# Altium footprint library Package_DIP.PcbLib: 281 footprints (part 6 of 18)
Each footprint in its own frame and in the unit in brackets; x right, y up, seen from the top. Pads: shape width x height; smd on the part's side, far side on the other; paste and mask are expansions set on the pad; w line width, h text height; cw(c..) or ccw(c..) is an arc to the next point about the centre after c.
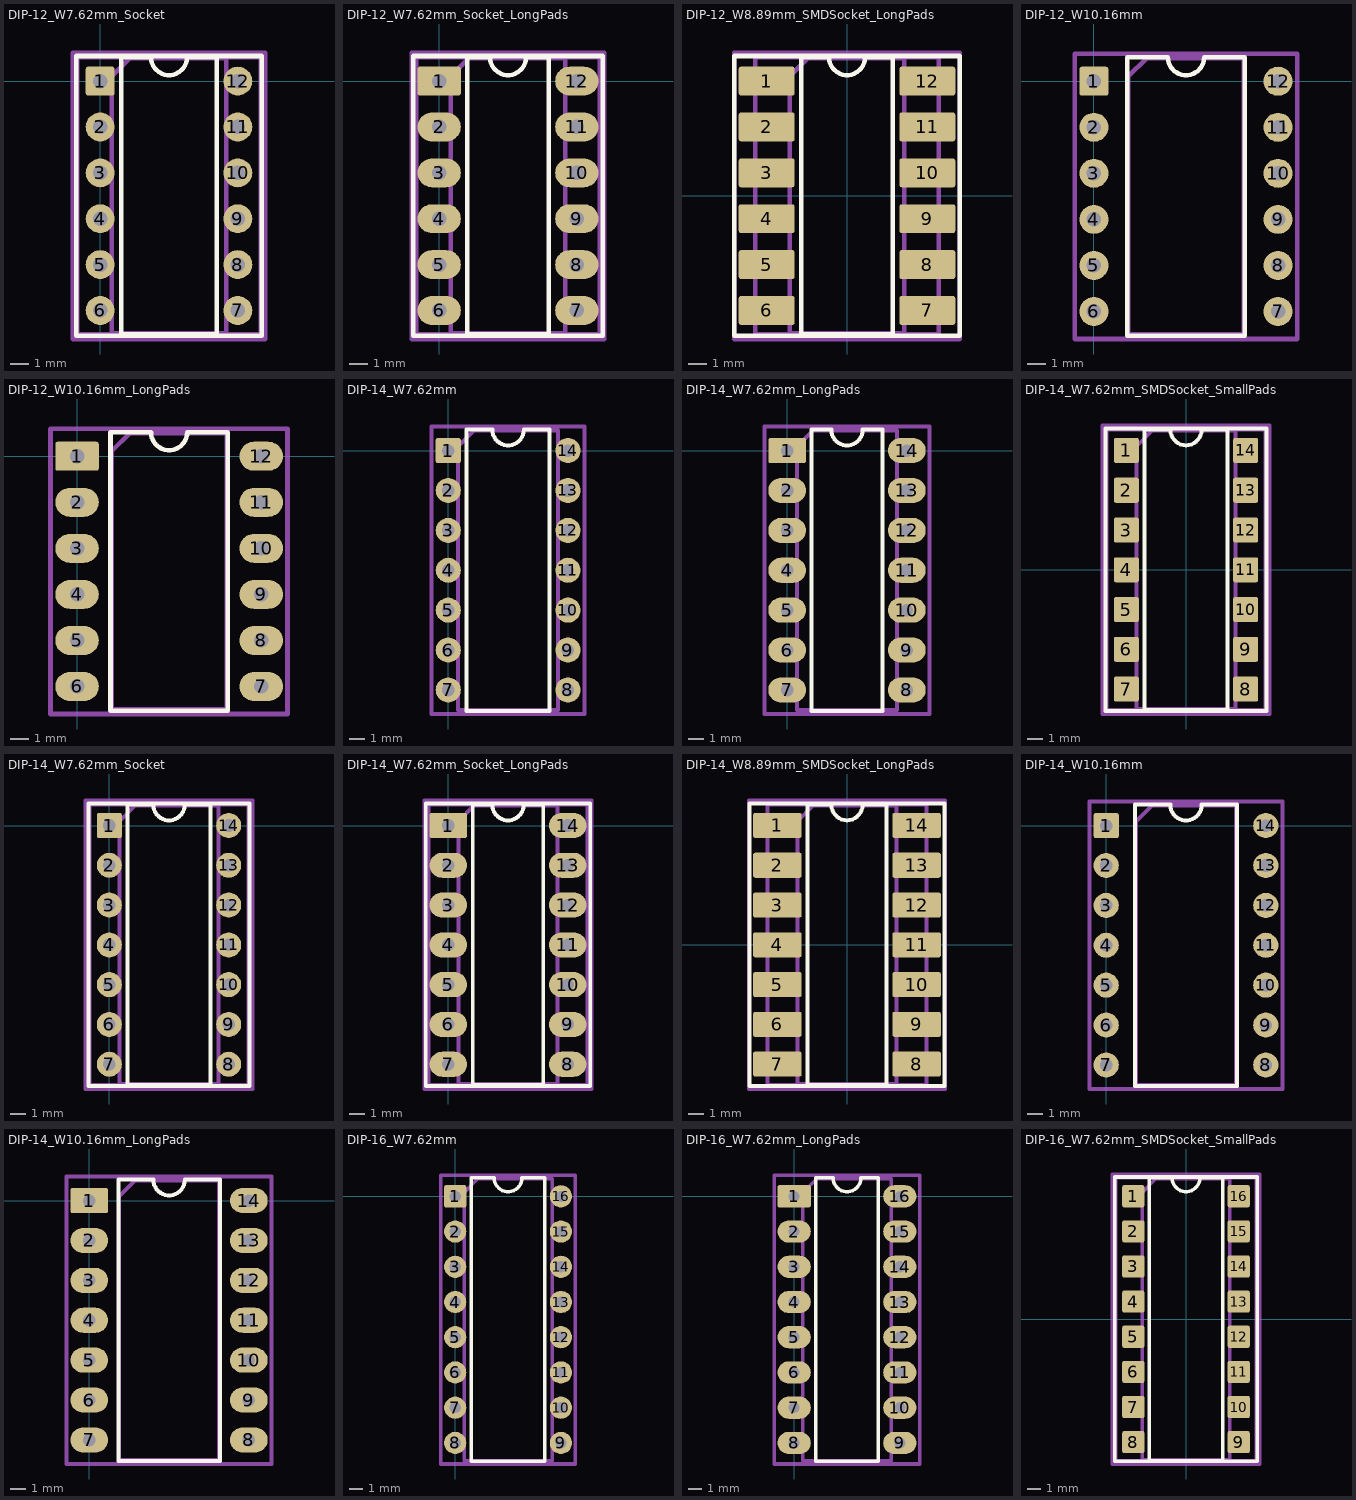
[diagram p5: the footprints below, top view; thin cyan lines are the x and y axes]

## DIP-12_W7.62mm_Socket [mm]
pads (12):
  rrect16% 1.6x1.6 hole 0.8: 1(0,0)
  round 1.6 hole 0.8: 2(0,-2.54) 3(0,-5.08) 4(0,-7.62) 5(0,-10.16) 6(0,-12.7) 7(7.62,-12.7) 8(7.62,-10.16) 9(7.62,-7.62) 10(7.62,-5.08) 11(7.62,-2.54) 12(7.62,0)
F.SilkS:
  lines w0.254: -1.33,-14.09 8.95,-14.09 8.95,1.39 -1.33,1.39 -1.33,-14.09 ; 1.16,-14.03 6.46,-14.03 6.46,1.33 4.81,1.33 cw(c3.81,1.33) 2.81,1.33 1.16,1.33 1.16,-14.03
Top Assembly:
  lines w0.254: -1.27,-14.03 8.89,-14.03 8.89,1.33 -1.27,1.33 -1.27,-14.03 ; 0.635,-13.97 6.985,-13.97 6.985,1.27 1.635,1.27 0.635,0.27 0.635,-13.97
  text "'.Designator'" at 4.65,-10.397 h1
Top Courtyard:
  lines w0.254: -1.52,-14.28 9.14,-14.28 9.14,1.58 -1.52,1.58 -1.52,-14.28
Top Designator:
  text ".Designator" at -3.808,-6.858 h1.52

## DIP-12_W7.62mm_Socket_LongPads [mm]
pads (12):
  rrect16% 2.4x1.6 hole 0.8: 1(0,0)
  rrect100% 2.4x1.6 hole 0.8: 2(0,-2.54) 3(0,-5.08) 4(0,-7.62) 5(0,-10.16) 6(0,-12.7) 7(7.62,-12.7) 8(7.62,-10.16) 9(7.62,-7.62) 10(7.62,-5.08) 11(7.62,-2.54) 12(7.62,0)
F.SilkS:
  lines w0.254: -1.44,-14.09 9.06,-14.09 9.06,1.39 -1.44,1.39 -1.44,-14.09 ; 1.56,-14.03 6.06,-14.03 6.06,1.33 4.81,1.33 cw(c3.81,1.33) 2.81,1.33 1.56,1.33 1.56,-14.03
Top Assembly:
  lines w0.254: -1.27,-14.03 8.89,-14.03 8.89,1.33 -1.27,1.33 -1.27,-14.03 ; 0.635,-13.97 6.985,-13.97 6.985,1.27 1.635,1.27 0.635,0.27 0.635,-13.97
  text "'.Designator'" at 4.65,-10.397 h1
Top Courtyard:
  lines w0.254: -1.52,-14.28 9.14,-14.28 9.14,1.58 -1.52,1.58 -1.52,-14.28
Top Designator:
  text ".Designator" at -3.808,-6.858 h1.52

## DIP-12_W8.89mm_SMDSocket_LongPads [mm]
pads (12):
  rrect16% 3.1x1.6 smd: 1(-4.445,6.35) 2(-4.445,3.81) 3(-4.445,1.27) 4(-4.445,-1.27) 5(-4.445,-3.81) 6(-4.445,-6.35) 7(4.445,-6.35) 8(4.445,-3.81) 9(4.445,-1.27) 10(4.445,1.27) 11(4.445,3.81) 12(4.445,6.35)
F.SilkS:
  lines w0.254: -6.235,-7.74 6.235,-7.74 6.235,7.74 -6.235,7.74 -6.235,-7.74 ; -2.535,-7.68 2.535,-7.68 2.535,7.68 1,7.68 cw(c0,7.68) -1,7.68 -2.535,7.68 -2.535,-7.68
Top Assembly:
  lines w0.254: -5.08,-7.68 5.08,-7.68 5.08,7.68 -5.08,7.68 -5.08,-7.68 ; -3.175,-7.62 3.175,-7.62 3.175,7.62 -2.175,7.62 -3.175,6.62 -3.175,-7.62
  text "'.Designator'" at 0.84,-4.047 h1
Top Courtyard:
  lines w0.254: -6.25,-7.93 6.25,-7.93 6.25,7.93 -6.25,7.93 -6.25,-7.93
Top Designator:
  text ".Designator" at -7.618,-0.508 h1.52

## DIP-12_W10.16mm [mm]
pads (12):
  rrect16% 1.6x1.6 hole 0.8: 1(0,0)
  round 1.6 hole 0.8: 2(0,-2.54) 3(0,-5.08) 4(0,-7.62) 5(0,-10.16) 6(0,-12.7) 7(10.16,-12.7) 8(10.16,-10.16) 9(10.16,-7.62) 10(10.16,-5.08) 11(10.16,-2.54) 12(10.16,0)
F.SilkS:
  lines w0.254: 1.845,-14.03 8.315,-14.03 8.315,1.33 6.08,1.33 cw(c5.08,1.33) 4.08,1.33 1.845,1.33 1.845,-14.03
Top Assembly:
  lines w0.254: 1.905,-13.97 8.255,-13.97 8.255,1.27 2.905,1.27 1.905,0.27 1.905,-13.97
  text "'.Designator'" at 5.92,-10.397 h1
Top Courtyard:
  lines w0.254: -1.05,-14.22 11.21,-14.22 11.21,1.52 -1.05,1.52 -1.05,-14.22
Top Designator:
  text ".Designator" at -2.538,-6.858 h1.52

## DIP-12_W10.16mm_LongPads [mm]
pads (12):
  rrect16% 2.4x1.6 hole 0.8: 1(0,0)
  rrect100% 2.4x1.6 hole 0.8: 2(0,-2.54) 3(0,-5.08) 4(0,-7.62) 5(0,-10.16) 6(0,-12.7) 7(10.16,-12.7) 8(10.16,-10.16) 9(10.16,-7.62) 10(10.16,-5.08) 11(10.16,-2.54) 12(10.16,0)
F.SilkS:
  lines w0.254: 1.845,-14.03 8.315,-14.03 8.315,1.33 6.08,1.33 cw(c5.08,1.33) 4.08,1.33 1.845,1.33 1.845,-14.03
Top Assembly:
  lines w0.254: 1.905,-13.97 8.255,-13.97 8.255,1.27 2.905,1.27 1.905,0.27 1.905,-13.97
  text "'.Designator'" at 5.92,-10.397 h1
Top Courtyard:
  lines w0.254: -1.46,-14.22 11.61,-14.22 11.61,1.52 -1.46,1.52 -1.46,-14.22
Top Designator:
  text ".Designator" at -2.543,-6.858 h1.52

## DIP-14_W7.62mm [mm]
pads (14):
  rrect16% 1.6x1.6 hole 0.8: 1(0,0)
  round 1.6 hole 0.8: 2(0,-2.54) 3(0,-5.08) 4(0,-7.62) 5(0,-10.16) 6(0,-12.7) 7(0,-15.24) 8(7.62,-15.24) 9(7.62,-12.7) 10(7.62,-10.16) 11(7.62,-7.62) 12(7.62,-5.08) 13(7.62,-2.54) 14(7.62,0)
F.SilkS:
  lines w0.254: 1.16,-16.57 6.46,-16.57 6.46,1.33 4.81,1.33 cw(c3.81,1.33) 2.81,1.33 1.16,1.33 1.16,-16.57
Top Assembly:
  lines w0.254: 0.635,-16.51 6.985,-16.51 6.985,1.27 1.635,1.27 0.635,0.27 0.635,-16.51
  text "'.Designator'" at 4.65,-11.667 h1
Top Courtyard:
  lines w0.254: -1.06,-16.77 8.67,-16.77 8.67,1.53 -1.06,1.53 -1.06,-16.77
Top Designator:
  text ".Designator" at -3.813,-8.128 h1.52

## DIP-14_W7.62mm_LongPads [mm]
pads (14):
  rrect16% 2.4x1.6 hole 0.8: 1(0,0)
  rrect100% 2.4x1.6 hole 0.8: 2(0,-2.54) 3(0,-5.08) 4(0,-7.62) 5(0,-10.16) 6(0,-12.7) 7(0,-15.24) 8(7.62,-15.24) 9(7.62,-12.7) 10(7.62,-10.16) 11(7.62,-7.62) 12(7.62,-5.08) 13(7.62,-2.54) 14(7.62,0)
F.SilkS:
  lines w0.254: 1.56,-16.57 6.06,-16.57 6.06,1.33 4.81,1.33 cw(c3.81,1.33) 2.81,1.33 1.56,1.33 1.56,-16.57
Top Assembly:
  lines w0.254: 0.635,-16.51 6.985,-16.51 6.985,1.27 1.635,1.27 0.635,0.27 0.635,-16.51
  text "'.Designator'" at 4.65,-11.667 h1
Top Courtyard:
  lines w0.254: -1.45,-16.77 9.07,-16.77 9.07,1.53 -1.45,1.53 -1.45,-16.77
Top Designator:
  text ".Designator" at -3.808,-8.128 h1.52

## DIP-14_W7.62mm_SMDSocket_SmallPads [mm]
pads (14):
  rrect16% 1.6x1.6 smd: 1(-3.81,7.62) 2(-3.81,5.08) 3(-3.81,2.54) 4(-3.81,0) 5(-3.81,-2.54) 6(-3.81,-5.08) 7(-3.81,-7.62) 8(3.81,-7.62) 9(3.81,-5.08) 10(3.81,-2.54) 11(3.81,0) 12(3.81,2.54) 13(3.81,5.08) 14(3.81,7.62)
F.SilkS:
  lines w0.254: -5.14,-9.01 5.14,-9.01 5.14,9.01 -5.14,9.01 -5.14,-9.01 ; -2.65,-8.95 2.65,-8.95 2.65,8.95 1,8.95 cw(c0,8.95) -1,8.95 -2.65,8.95 -2.65,-8.95
Top Assembly:
  lines w0.254: -5.08,-8.95 5.08,-8.95 5.08,8.95 -5.08,8.95 -5.08,-8.95 ; -3.175,-8.89 3.175,-8.89 3.175,8.89 -2.175,8.89 -3.175,7.89 -3.175,-8.89
  text "'.Designator'" at 0.84,-4.047 h1
Top Courtyard:
  lines w0.254: -5.33,-9.21 5.33,-9.21 5.33,9.21 -5.33,9.21 -5.33,-9.21
Top Designator:
  text ".Designator" at -7.618,-0.508 h1.52

## DIP-14_W7.62mm_Socket [mm]
pads (14):
  rrect16% 1.6x1.6 hole 0.8: 1(0,0)
  round 1.6 hole 0.8: 2(0,-2.54) 3(0,-5.08) 4(0,-7.62) 5(0,-10.16) 6(0,-12.7) 7(0,-15.24) 8(7.62,-15.24) 9(7.62,-12.7) 10(7.62,-10.16) 11(7.62,-7.62) 12(7.62,-5.08) 13(7.62,-2.54) 14(7.62,0)
F.SilkS:
  lines w0.254: -1.33,-16.63 8.95,-16.63 8.95,1.39 -1.33,1.39 -1.33,-16.63 ; 1.16,-16.57 6.46,-16.57 6.46,1.33 4.81,1.33 cw(c3.81,1.33) 2.81,1.33 1.16,1.33 1.16,-16.57
Top Assembly:
  lines w0.254: -1.27,-16.57 8.89,-16.57 8.89,1.33 -1.27,1.33 -1.27,-16.57 ; 0.635,-16.51 6.985,-16.51 6.985,1.27 1.635,1.27 0.635,0.27 0.635,-16.51
  text "'.Designator'" at 4.65,-11.667 h1
Top Courtyard:
  lines w0.254: -1.52,-16.82 9.14,-16.82 9.14,1.59 -1.52,1.59 -1.52,-16.82
Top Designator:
  text ".Designator" at -3.808,-8.123 h1.52

## DIP-14_W7.62mm_Socket_LongPads [mm]
pads (14):
  rrect16% 2.4x1.6 hole 0.8: 1(0,0)
  rrect100% 2.4x1.6 hole 0.8: 2(0,-2.54) 3(0,-5.08) 4(0,-7.62) 5(0,-10.16) 6(0,-12.7) 7(0,-15.24) 8(7.62,-15.24) 9(7.62,-12.7) 10(7.62,-10.16) 11(7.62,-7.62) 12(7.62,-5.08) 13(7.62,-2.54) 14(7.62,0)
F.SilkS:
  lines w0.254: -1.44,-16.63 9.06,-16.63 9.06,1.39 -1.44,1.39 -1.44,-16.63 ; 1.56,-16.57 6.06,-16.57 6.06,1.33 4.81,1.33 cw(c3.81,1.33) 2.81,1.33 1.56,1.33 1.56,-16.57
Top Assembly:
  lines w0.254: -1.27,-16.57 8.89,-16.57 8.89,1.33 -1.27,1.33 -1.27,-16.57 ; 0.635,-16.51 6.985,-16.51 6.985,1.27 1.635,1.27 0.635,0.27 0.635,-16.51
  text "'.Designator'" at 4.65,-11.667 h1
Top Courtyard:
  lines w0.254: -1.52,-16.82 9.14,-16.82 9.14,1.59 -1.52,1.59 -1.52,-16.82
Top Designator:
  text ".Designator" at -3.808,-8.123 h1.52

## DIP-14_W8.89mm_SMDSocket_LongPads [mm]
pads (14):
  rrect16% 3.1x1.6 smd: 1(-4.445,7.62) 2(-4.445,5.08) 3(-4.445,2.54) 4(-4.445,0) 5(-4.445,-2.54) 6(-4.445,-5.08) 7(-4.445,-7.62) 8(4.445,-7.62) 9(4.445,-5.08) 10(4.445,-2.54) 11(4.445,0) 12(4.445,2.54) 13(4.445,5.08) 14(4.445,7.62)
F.SilkS:
  lines w0.254: -6.235,-9.01 6.235,-9.01 6.235,9.01 -6.235,9.01 -6.235,-9.01 ; -2.535,-8.95 2.535,-8.95 2.535,8.95 1,8.95 cw(c0,8.95) -1,8.95 -2.535,8.95 -2.535,-8.95
Top Assembly:
  lines w0.254: -5.08,-8.95 5.08,-8.95 5.08,8.95 -5.08,8.95 -5.08,-8.95 ; -3.175,-8.89 3.175,-8.89 3.175,8.89 -2.175,8.89 -3.175,7.89 -3.175,-8.89
  text "'.Designator'" at 0.84,-4.047 h1
Top Courtyard:
  lines w0.254: -6.25,-9.21 6.25,-9.21 6.25,9.21 -6.25,9.21 -6.25,-9.21
Top Designator:
  text ".Designator" at -7.618,-0.508 h1.52

## DIP-14_W10.16mm [mm]
pads (14):
  rrect16% 1.6x1.6 hole 0.8: 1(0,0)
  round 1.6 hole 0.8: 2(0,-2.54) 3(0,-5.08) 4(0,-7.62) 5(0,-10.16) 6(0,-12.7) 7(0,-15.24) 8(10.16,-15.24) 9(10.16,-12.7) 10(10.16,-10.16) 11(10.16,-7.62) 12(10.16,-5.08) 13(10.16,-2.54) 14(10.16,0)
F.SilkS:
  lines w0.254: 1.845,-16.57 8.315,-16.57 8.315,1.33 6.08,1.33 cw(c5.08,1.33) 4.08,1.33 1.845,1.33 1.845,-16.57
Top Assembly:
  lines w0.254: 1.905,-16.51 8.255,-16.51 8.255,1.27 2.905,1.27 1.905,0.27 1.905,-16.51
  text "'.Designator'" at 5.92,-11.667 h1
Top Courtyard:
  lines w0.254: -1.05,-16.77 11.21,-16.77 11.21,1.53 -1.05,1.53 -1.05,-16.77
Top Designator:
  text ".Designator" at -2.538,-8.128 h1.52

## DIP-14_W10.16mm_LongPads [mm]
pads (14):
  rrect16% 2.4x1.6 hole 0.8: 1(0,0)
  rrect100% 2.4x1.6 hole 0.8: 2(0,-2.54) 3(0,-5.08) 4(0,-7.62) 5(0,-10.16) 6(0,-12.7) 7(0,-15.24) 8(10.16,-15.24) 9(10.16,-12.7) 10(10.16,-10.16) 11(10.16,-7.62) 12(10.16,-5.08) 13(10.16,-2.54) 14(10.16,0)
F.SilkS:
  lines w0.254: 1.845,-16.57 8.315,-16.57 8.315,1.33 6.08,1.33 cw(c5.08,1.33) 4.08,1.33 1.845,1.33 1.845,-16.57
Top Assembly:
  lines w0.254: 1.905,-16.51 8.255,-16.51 8.255,1.27 2.905,1.27 1.905,0.27 1.905,-16.51
  text "'.Designator'" at 5.92,-11.667 h1
Top Courtyard:
  lines w0.254: -1.46,-16.77 11.61,-16.77 11.61,1.53 -1.46,1.53 -1.46,-16.77
Top Designator:
  text ".Designator" at -2.543,-8.128 h1.52

## DIP-16_W7.62mm [mm]
pads (16):
  rrect16% 1.6x1.6 hole 0.8: 1(0,0)
  round 1.6 hole 0.8: 2(0,-2.54) 3(0,-5.08) 4(0,-7.62) 5(0,-10.16) 6(0,-12.7) 7(0,-15.24) 8(0,-17.78) 9(7.62,-17.78) 10(7.62,-15.24) 11(7.62,-12.7) 12(7.62,-10.16) 13(7.62,-7.62) 14(7.62,-5.08) 15(7.62,-2.54) 16(7.62,0)
F.SilkS:
  lines w0.254: 1.16,-19.11 6.46,-19.11 6.46,1.33 4.81,1.33 cw(c3.81,1.33) 2.81,1.33 1.16,1.33 1.16,-19.11
Top Assembly:
  lines w0.254: 0.635,-19.05 6.985,-19.05 6.985,1.27 1.635,1.27 0.635,0.27 0.635,-19.05
  text "'.Designator'" at 4.65,-12.937 h1
Top Courtyard:
  lines w0.254: -1.06,-19.3 8.67,-19.3 8.67,1.52 -1.06,1.52 -1.06,-19.3
Top Designator:
  text ".Designator" at -3.813,-9.398 h1.52

## DIP-16_W7.62mm_LongPads [mm]
pads (16):
  rrect16% 2.4x1.6 hole 0.8: 1(0,0)
  rrect100% 2.4x1.6 hole 0.8: 2(0,-2.54) 3(0,-5.08) 4(0,-7.62) 5(0,-10.16) 6(0,-12.7) 7(0,-15.24) 8(0,-17.78) 9(7.62,-17.78) 10(7.62,-15.24) 11(7.62,-12.7) 12(7.62,-10.16) 13(7.62,-7.62) 14(7.62,-5.08) 15(7.62,-2.54) 16(7.62,0)
F.SilkS:
  lines w0.254: 1.56,-19.11 6.06,-19.11 6.06,1.33 4.81,1.33 cw(c3.81,1.33) 2.81,1.33 1.56,1.33 1.56,-19.11
Top Assembly:
  lines w0.254: 0.635,-19.05 6.985,-19.05 6.985,1.27 1.635,1.27 0.635,0.27 0.635,-19.05
  text "'.Designator'" at 4.65,-12.937 h1
Top Courtyard:
  lines w0.254: -1.45,-19.3 9.07,-19.3 9.07,1.52 -1.45,1.52 -1.45,-19.3
Top Designator:
  text ".Designator" at -3.808,-9.398 h1.52

## DIP-16_W7.62mm_SMDSocket_SmallPads [mm]
pads (16):
  rrect16% 1.6x1.6 smd: 1(-3.81,8.89) 2(-3.81,6.35) 3(-3.81,3.81) 4(-3.81,1.27) 5(-3.81,-1.27) 6(-3.81,-3.81) 7(-3.81,-6.35) 8(-3.81,-8.89) 9(3.81,-8.89) 10(3.81,-6.35) 11(3.81,-3.81) 12(3.81,-1.27) 13(3.81,1.27) 14(3.81,3.81) 15(3.81,6.35) 16(3.81,8.89)
F.SilkS:
  lines w0.254: -5.14,-10.28 5.14,-10.28 5.14,10.28 -5.14,10.28 -5.14,-10.28 ; -2.65,-10.22 2.65,-10.22 2.65,10.22 1,10.22 cw(c0,10.22) -1,10.22 -2.65,10.22 -2.65,-10.22
Top Assembly:
  lines w0.254: -5.08,-10.22 5.08,-10.22 5.08,10.22 -5.08,10.22 -5.08,-10.22 ; -3.175,-10.16 3.175,-10.16 3.175,10.16 -2.175,10.16 -3.175,9.16 -3.175,-10.16
  text "'.Designator'" at 0.84,-4.047 h1
Top Courtyard:
  lines w0.254: -5.33,-10.47 5.33,-10.47 5.33,10.47 -5.33,10.47 -5.33,-10.47
Top Designator:
  text ".Designator" at -7.618,-0.508 h1.52